# Altium schematic symbol library OLED_SH1106.Schlib: 1 symbol
Pins are listed as number, name and electrical type; pins without a type are passive.

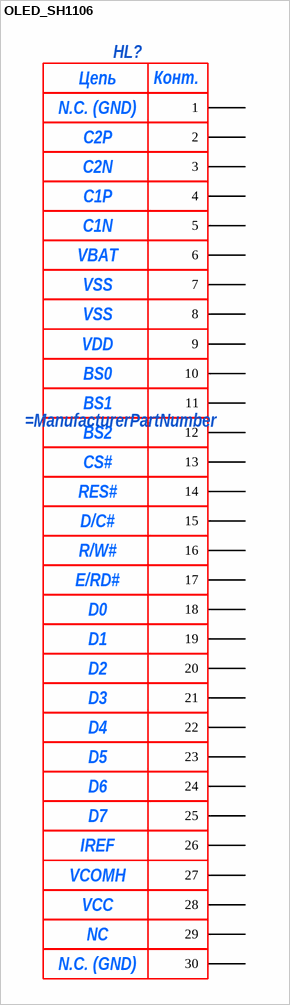
[diagram p0: symbol OLED_SH1106]

## OLED_SH1106
designator HL?
pins: 1, 2, 3, 4, 5, 6, 7, 8, 9, 10, 11, 12, 13, 14, 15, 16, 17, 18, 19, 20, 21, 22, 23, 24, 25, 26, 27, 28, 29, 30
text: Цепь; Конт.; N.C. (GND); C2P; C2N; C1P; C1N; VBAT; VSS; VDD; BS0; BS1; BS2; CS#; RES#; D/C#; R/W#; E/RD#; D0; D1; D2; D3; D4; D5; D6; D7; IREF; VCOMH; VCC; NC